# Altium footprint library TQFP.PcbLib: 2 footprints
Each footprint in its own frame and in the unit in brackets; x right, y up, seen from the top. Pads: shape width x height; smd on the part's side, far side on the other; paste and mask are expansions set on the pad; w line width, h text height; cw(c..) or ccw(c..) is an arc to the next point about the centre after c.
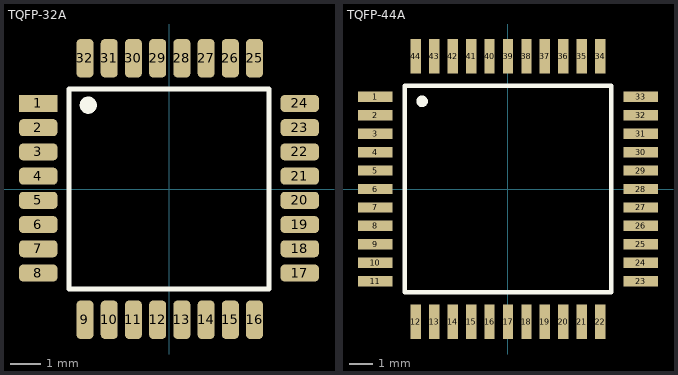
[diagram p0: the footprints below, top view; thin cyan lines are the x and y axes]

## TQFP-32A [mil]
pads (32):
  rect 50x22 smd: 1(-170,111.22)
  rrect50% 50x22 smd: 2(-170,79.72) 3(-170,48.23) 4(-170,16.73) 5(-170,-14.76) 6(-170,-46.26) 7(-170,-77.76) 8(-170,-109.25) 17(170,-109.25) 18(170,-77.76) 19(170,-46.26) 20(170,-14.76) 21(170,16.73) 22(170,48.23) 23(170,79.72) 24(170,111.22)
  rrect50% 22x50 smd: 9(-109.25,-170) 10(-77.76,-170) 11(-46.26,-170) 12(-14.76,-170) 13(16.73,-170) 14(48.23,-170) 15(79.72,-170) 16(111.22,-170) 25(111.22,170) 26(79.72,170) 27(48.23,170) 28(16.73,170) 29(-14.76,170) 30(-46.26,170) 31(-77.76,170) 32(-109.25,170)
Top Overlay:
  circle w6: c-105,109 r2.24
  circle w6: c-105,109 r8.25
  lines w6: -130,-130 130,-130 130,130 -130,130 -130,-130
3D body: height 47.24, standoff 0, extent -180.08,-180 182.08,182.16

## TQFP-44A [mm] "QFP; 44 Leads; Body 10 x 10 mm; Pitch 0.8 mm"
height 2.1
pads (44):
  rect 1.5x0.45 smd: 1(-5.75,4) 2(-5.75,3.2) 3(-5.75,2.4) 4(-5.75,1.6) 5(-5.75,0.8) 6(-5.75,0) 7(-5.75,-0.8) 8(-5.75,-1.6) 9(-5.75,-2.4) 10(-5.75,-3.2) 11(-5.75,-4) 23(5.75,-4) 24(5.75,-3.2) 25(5.75,-2.4) 26(5.75,-1.6) 27(5.75,-0.8) 28(5.75,0) 29(5.75,0.8) 30(5.75,1.6) 31(5.75,2.4) 32(5.75,3.2) 33(5.75,4)
  rect 0.45x1.5 smd: 12(-4,-5.75) 13(-3.2,-5.75) 14(-2.4,-5.75) 15(-1.6,-5.75) 16(-0.8,-5.75) 17(0,-5.75) 18(0.8,-5.75) 19(1.6,-5.75) 20(2.4,-5.75) 21(3.2,-5.75) 22(4,-5.75) 34(4,5.75) 35(3.2,5.75) 36(2.4,5.75) 37(1.6,5.75) 38(0.8,5.75) 39(0,5.75) 40(-0.8,5.75) 41(-1.6,5.75) 42(-2.4,5.75) 43(-3.2,5.75) 44(-4,5.75)
Top Overlay:
  circle w0.25: c-3.725,3.8 r0.125
  lines w0.2: -4.475,-4.475 4.475,-4.475 4.475,4.475 -4.475,4.475 -4.475,-4.475
3D body: height 1.1, standoff 0, extent -6,-6 6,6